# Altium footprint library MMZ09312BT1.PcbLib: 1 footprints
Each footprint in its own frame and in the unit in brackets; x right, y up, seen from the top. Pads: shape width x height; smd on the part's side, far side on the other; paste and mask are expansions set on the pad; w line width, h text height; cw(c..) or ccw(c..) is an arc to the next point about the centre after c.
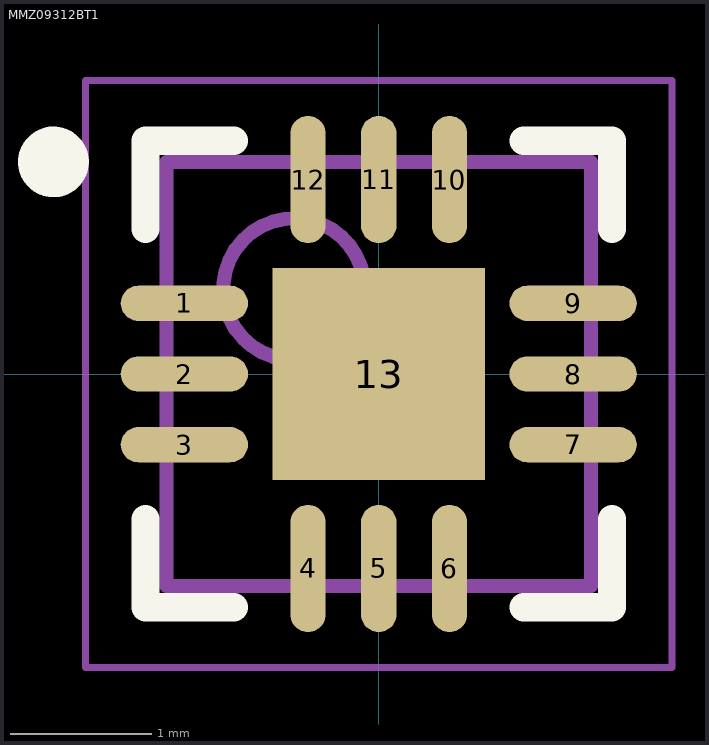
[diagram p0: the footprint, top view; thin cyan lines are the x and y axes]

## MMZ09312BT1 [mm]
height 0.9
pads (13):
  oval 0.9x0.25 smd: 1(-1.375,0.5) 2(-1.375,0) 3(-1.375,-0.5) 7(1.375,-0.5) 8(1.375,0) 9(1.375,0.5)
  oval 0.25x0.9 smd: 4(-0.5,-1.375) 5(0,-1.375) 6(0.5,-1.375) 10(0.5,1.375) 11(0,1.375) 12(-0.5,1.375)
  rect 1.5x1.5 smd: 13(0,0)
Top Overlay:
  circle w0.25: c-2.3,1.5 r0.125
  lines w0.2: -1.65,-1.025 -1.65,-1.65 -1.025,-1.65 ; -1.65,1.025 -1.65,1.65 -1.025,1.65 ; 1.025,-1.65 1.65,-1.65 1.65,-1.025 ; 1.025,1.65 1.65,1.65 1.65,1.025
Mechanical 13:
  circle w0.1: c-0.6,0.6 r0.5
  lines w0.1: -1.5,-1.5 1.5,-1.5 1.5,1.5 -1.5,1.5 -1.5,-1.5
Mechanical 15:
  lines w0.05: -2.075,-2.075 2.075,-2.075 2.075,2.075 -2.075,2.075 -2.075,-2.075
  lines w0.1: -0.5,0 0.5,0 ; 0,-0.5 0,0.5
3D body "MMZ09312BT1.step": height 0.9, standoff 0, extent -1.501,-1.501 1.501,1.501